# Altium schematic symbol library switche.SchLib: 3 symbols
Pins are listed as number, name and electrical type; pins without a type are passive.

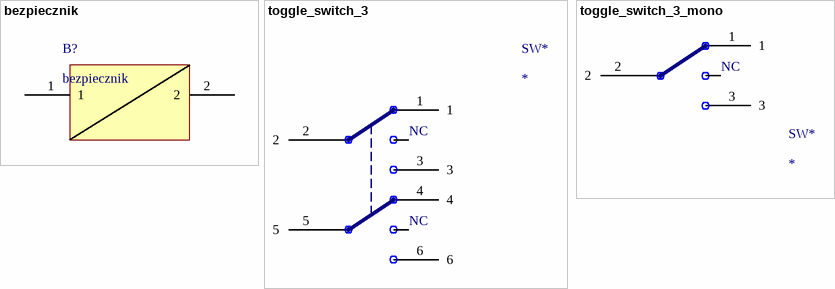
[diagram p0: symbols bezpiecznik to toggle_switch_3_mono]

## bezpiecznik
designator B?
footprint bezpiecznik
footprint Axial 0.6
pins: 1, 2

## toggle_switch_3
designator SW*
Dual 3-stage toggle switch
pins: 1, 2, 3, 4, 5, 6
text: NC

## toggle_switch_3_mono
designator SW*
Single 3-stage toggle switch
pins: 1, 2, 3
text: NC